# EAGLE library part DC_DC_TRACO_8W (library lbm)
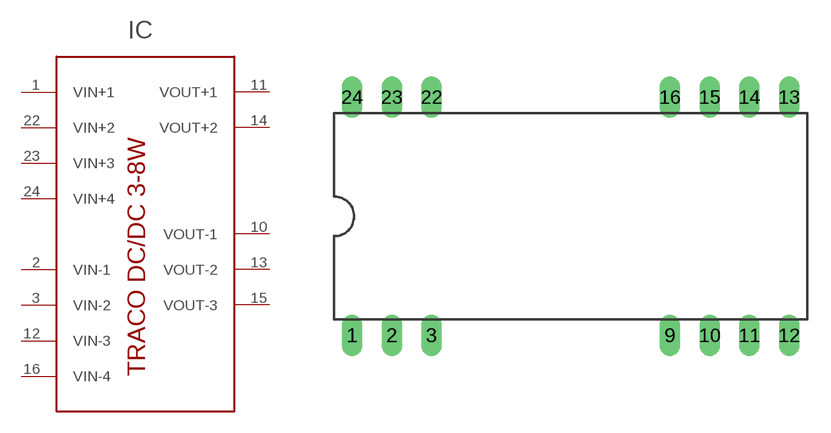
[diagram p15: symbol with the pads of DIL_TRACO_DCDC; footprint DIL_TRACO_DCDC]

Designator prefix IC

## DC_DC_TRACO_8W  [DIL_TRACO_DCDC]
1  VIN+1
2  VIN-1
3  VIN-2
10  VOUT-1
11  VOUT+1
12  VIN-3
13  VOUT-2
14  VOUT+2
15  VOUT-3
16  VIN-4
22  VIN+2
23  VIN+3
24  VIN+4

## Footprint DIL_TRACO_DCDC (pad centres in mm)
drill 0.813 long: 1 -13.97,-7.62; 2 -11.43,-7.62; 3 -8.89,-7.62; 9 6.35,-7.62; 10 8.89,-7.62; 11 11.43,-7.62; 12 13.97,-7.62; 13 13.97,7.62; 14 11.43,7.62; 15 8.89,7.62; 16 6.35,7.62; 22 -8.89,7.62; 23 -11.43,7.62; 24 -13.97,7.62